# EAGLE library part 23P (library con-dg55)
DEGSON DG55 CONNECTOR
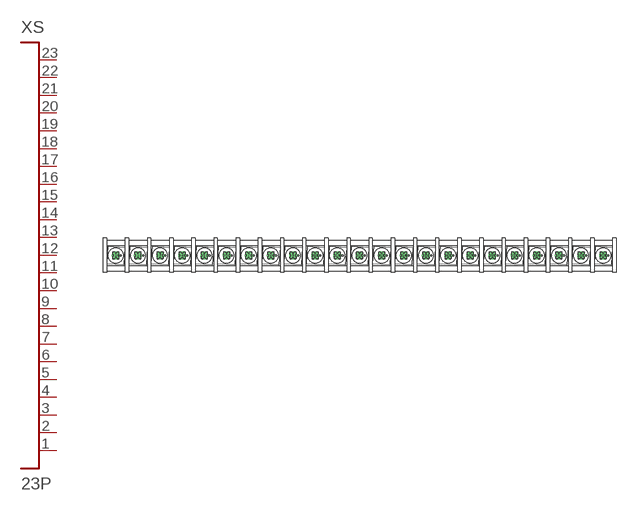
[diagram p17: symbol with the pads of DG55CB-23P-1; footprint DG55CB-23P-1]

Designator prefix XS

## 23P  [DG55CB-23P-1]
1  P$1
2  P$2
3  P$3
4  P$4
5  P$5
6  P$6
7  P$7
8  P$8
9  P$9
10  P$10
11  P$11
12  P$12
13  P$13
14  P$14
15  P$15
16  P$16
17  P$17
18  P$18
19  P$19
20  P$20
21  P$21
22  P$22
23  P$23

## Footprint DG55CB-23P-1 (pad centres in mm)
DG55
drill 1.8 pad 3.6: 1 -110,0; 2 -100,0; 3 -90,0; 4 -80,0; 5 -70,0; 6 -60,0; 7 -50,0; 8 -40,0; 9 -30,0; 10 -20,0; 11 -10,0; 12 0,0; 13 10,0; 14 20,0; 15 30,0; 16 40,0; 17 50,0; 18 60,0; 19 70,0; 20 80,0; 21 90,0; 22 100,0; 23 110,0